# Altium footprint library TO.PcbLib: 37 footprints (part 1 of 3)
Each footprint in its own frame and in the unit in brackets; x right, y up, seen from the top. Pads: shape width x height; smd on the part's side, far side on the other; paste and mask are expansions set on the pad; w line width, h text height; cw(c..) or ccw(c..) is an arc to the next point about the centre after c.
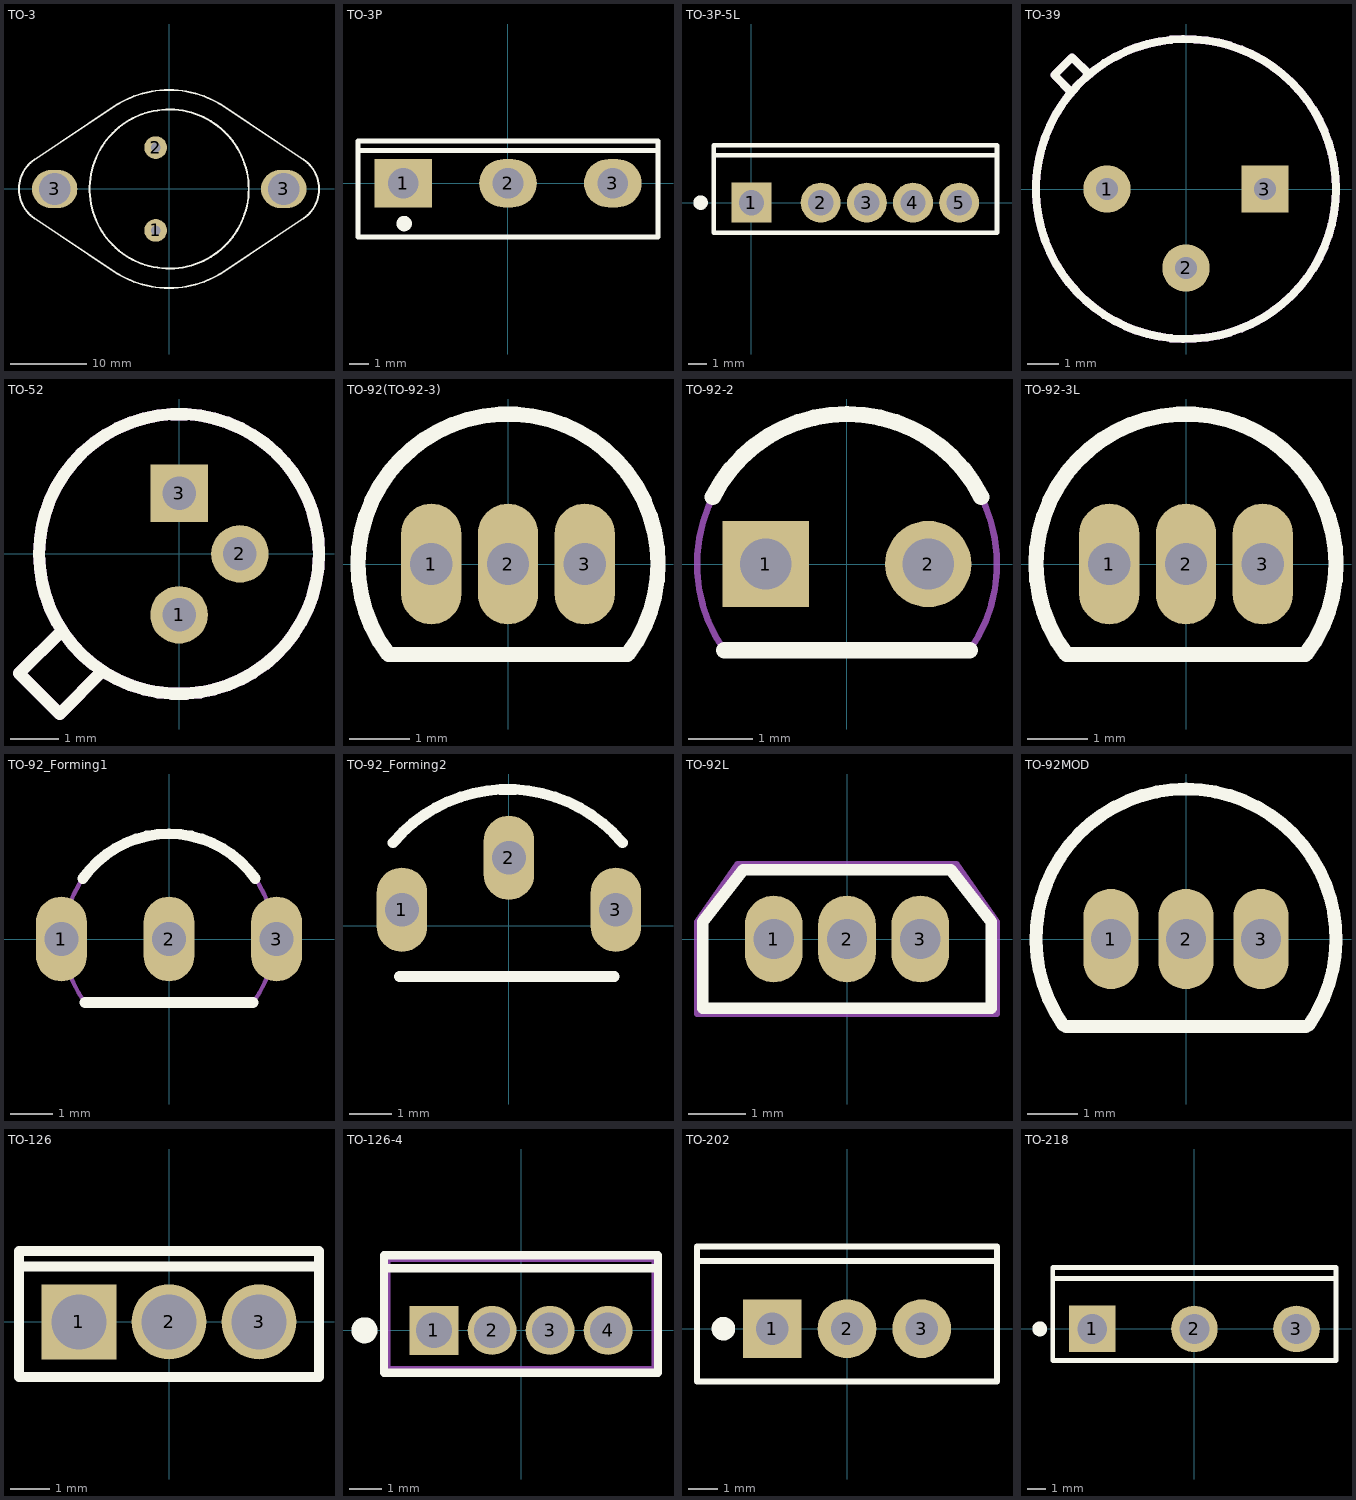
[diagram p0: the footprints below, top view; thin cyan lines are the x and y axes]

## TO-3 [mm]
pads (4):
  round 3 hole 1.3: 1(-1.778,-5.461) 2(-1.778,5.461)
  oval 6x5 hole 4.2: 3(-15.113,0) 3(15.113,0)
Top Overlay:
  circle w0.254: c0,0 r10.5
  lines w0.254: -19.82,-0.051 ccw(c-15.22,-0.051) -17.773,-3.877 -7.246,-10.902 ccw(c-0.03,-0.089) -0.03,-13.089 -0.02,-13.089 ccw(c-0.02,-0.089) 7.196,-10.902 17.723,-3.877 ccw(c15.17,-0.051) 19.77,-0.051 19.77,0.051 ccw(c15.17,0.051) 17.723,3.877 7.196,10.902 ccw(c-0.02,0.089) -0.02,13.089 -0.03,13.089 ccw(c-0.03,0.089) -7.246,10.902 -17.773,3.877 ccw(c-15.22,0.051) -19.82,0.051 -19.82,-0.051
3D body "User Library-TO-3_Long.STEP": height 8.5, standoff -12, extent -19.757,-13.089 19.833,13.089

## TO-3P [mm]
pads (3):
  rect 3x2.5 hole 1.6: 1(-5.45,0)
  oval 3x2.5 hole 1.6: 2(0,0) 3(5.45,0)
Top Overlay:
  circle w0.4: c-5.4,-2.1 r0.2
  lines w0.254: -7.8,1.7 7.8,1.7 ; -7.8,-2.8 7.8,-2.8 7.8,2.2 -7.8,2.2 -7.8,-2.8
3D body "TO-3P.STEP": height 24.4, standoff -15.5, extent -7.9,-2.9 7.7,1.81

## TO-3P-5L [mm]
pads (5):
  rect 2.2x2.2 hole 1.4: 1(0,0)
  round 2.2 hole 1.4: 2(3.81,0) 3(6.35,0) 4(8.89,0) 5(11.43,0)
Top Overlay:
  circle w0.4: c-2.8,0 r0.2
  lines w0.254: -2.085,2.6 13.515,2.6 ; -2.085,-1.65 13.515,-1.65 13.515,3.15 -2.085,3.15 -2.085,-1.65

## TO-39 [mm]
pads (3):
  round 1.5 hole 0.7 mask+0.051: 1(-2.5,0) 2(0,-2.5)
  rect 1.5x1.5 hole 0.7 mask+0.051: 3(2.5,0)
Top Overlay:
  circle w0.254: c0,0 r4.75
  lines w0.254: -3.63,3.06 -4.17,3.61 -3.61,4.17 -3.06,3.63
Mechanical 13:
  circle w0.254: c0,0 r4.75
  lines w0.254: -3.63,3.06 -4.17,3.61 -3.61,4.17 -3.06,3.63

## TO-52 [mm]
pads (3):
  round 1.2 hole 0.7 mask+0.051: 1(0,-1.27) 2(1.27,0)
  rect 1.2x1.2 hole 0.7 mask+0.051: 3(0,1.27)
Top Overlay:
  circle w0.254: c0,0 r2.92
  lines w0.254: -2.44,-1.6 -3.34,-2.49 -2.49,-3.34 -1.6,-2.44
Mechanical 13:
  circle w0.254: c0,0 r2.92
  lines w0.254: -2.44,-1.6 -3.34,-2.49 -2.49,-3.34 -1.6,-2.44

## TO-92(TO-92-3) [mm]
pads (3):
  oval 1x2 hole 0.7 mask+0.051: 1(-1.27,0) 2(0,0) 3(1.27,0)
Top Overlay:
  lines w0.254: -1.98,-1.5 cw(c0,0) 1.98,-1.5 -1.98,-1.5
Mechanical 13:
  lines w0.1: -1.98,-1.5 cw(c0,0) 1.98,-1.5 -1.98,-1.5
3D body "TO-92.STEP": height 8, standoff -5, extent -2.613,-1.6 2.613,2.604

## TO-92-2 [mm]
pads (2):
  rect 1.35x1.35 hole 0.8: 1(-1.27,0)
  round 1.35 hole 0.8: 2(1.27,0)
Top Overlay:
  lines w0.254: -2.097,1.049 cw(c0,0) 2.097,1.049 ; -1.919,-1.348 1.919,-1.348
Mechanical 13:
  lines w0.1: 1.919,-1.348 -1.919,-1.348 cw(c0,0) 1.92,-1.347
3D body: height 6.6, standoff 1.27, extent -2.352,-1.347 2.344,2.354
3D body: height 1.27, standoff -11.43, extent -1.505,-0.192 -1.035,0.192
3D body: height 1.27, standoff -11.43, extent 1.035,-0.192 1.505,0.192

## TO-92-3L [mm]
pads (3):
  oval 1x2 hole 0.7 mask+0.051: 1(-1.27,0) 2(0,0) 3(1.27,0)
Top Overlay:
  lines w0.254: -1.98,-1.5 cw(c0,0) 1.98,-1.5 -1.98,-1.5
Mechanical 13:
  lines w0.1: -1.98,-1.5 cw(c0,0) 1.98,-1.5 -1.98,-1.5

## TO-92_Forming1 [mm]
pads (3):
  oval 1.2x2 hole 0.8: 1(-2.54,0) 2(0,0) 3(2.54,0)
Top Overlay:
  lines w0.254: -2.035,1.425 cw(c0,0) 2.035,1.425 ; -1.98,-1.5 1.98,-1.5
Mechanical 13:
  lines w0.1: -1.98,-1.5 cw(c0,0) 1.98,-1.5 -1.98,-1.5

## TO-92_Forming2 [mm]
pads (3):
  oval 1.2x2 hole 0.8: 1(-2.54,0.387) 2(0,1.619) 3(2.54,0.387)
Top Overlay:
  lines w0.254: -2.753,1.976 cw(c-0.029,-0.31) 2.695,1.976 ; -2.6,-1.2 2.5,-1.2
3D body "User Library-TO-92-5.STEP": height 7.14, standoff -0.9, extent -2.84,-1.1 2.84,2.7

## TO-92L [mm]
pads (3):
  oval 1x1.5 hole 0.7 mask+0.051: 1(-1.27,0) 2(0,0) 3(1.27,0)
Top Overlay:
  lines w0.2: -2.5,-1.2 -2.5,0.3 -1.8,1.2 1.8,1.2 2.5,0.3 2.5,-1.2 -2.5,-1.2
Mechanical 13:
  lines w0.1: -2.6,-1.3 2.6,-1.3 2.6,0.3 1.9,1.3 -1.9,1.3 -2.6,0.3 -2.6,-1.3

## TO-92MOD [mm]
pads (3):
  oval 1.1x2 hole 0.8: 1(-1.5,0) 2(0,0) 3(1.5,0)
Top Overlay:
  lines w0.254: -2.457,-1.721 cw(c0,0) 2.457,-1.721 ; -2.4,-1.75 2.4,-1.75

## TO-126 [mm]
pads (3):
  rect 1.9x1.9 hole 1.4: 1(-2.28,0)
  round 1.9 hole 1.4: 2(0,0) 3(2.28,0)
Top Overlay:
  lines w0.254: -3.8,1.4 3.8,1.4 ; -3.8,-1.4 3.8,-1.4 3.8,1.8 -3.8,1.8 -3.8,-1.4
3D body "User Library-TO-126 (SOT32) PCB.STEP": height 13.19, standoff -3.54, extent -3.8,-1 3.8,1.55

## TO-126-4 [mm]
pads (4):
  rect 1.5x1.5 hole 1.1 mask+0.051: 1(-2.67,0)
  round 1.5 hole 1.1 mask+0.051: 2(-0.89,0) 3(0.89,0) 4(2.67,0)
Top Overlay:
  circle w0.4: c-4.8,0 r0.2
  lines w0.254: -4.2,1.9 4.2,1.9 ; -4.2,-1.3 4.2,-1.3 4.2,2.3 -4.2,2.3 -4.2,-1.3
Mechanical 13:
  lines w0.2: -4.1,-1.2 4.1,-1.2 4.1,2.2 -4.1,2.2 -4.1,-1.2

## TO-202 [mm]
pads (3):
  rect 2x2 hole 1.1: 1(-2.54,0)
  round 2 hole 1.1: 2(0,0) 3(2.54,0)
Top Overlay:
  circle w0.4: c-4.2,0 r0.2
  lines w0.203: -5.1,2.3 5.1,2.3 ; -5.1,-1.8 5.1,-1.8 5.1,2.8 -5.1,2.8 -5.1,-1.8

## TO-218 [mm]
pads (3):
  rect 2.5x2.5 hole 1.6: 1(-5.48,0)
  round 2.5 hole 1.6: 2(0,0) 3(5.48,0)
Top Overlay:
  circle w0.4: c-8.3,0 r0.2
  lines w0.254: -7.6,2.7 7.6,2.7 ; -7.6,-1.7 7.6,-1.7 7.6,3.3 -7.6,3.3 -7.6,-1.7